# Altium schematic symbol library Terminal_Block.SchLib: 1 symbol
Pins are listed as number, name and electrical type; pins without a type are passive.

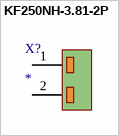
[diagram p0: symbol KF250NH-3.81-2P]

## KF250NH-3.81-2P
designator X?
Spring Clamp Terminal Block
pins: 1, 2